# Altium footprint library 6N13x Series.PcbLib: 2 footprints
Each footprint in its own frame and in the unit in brackets; x right, y up, seen from the top. Pads: shape width x height; smd on the part's side, far side on the other; paste and mask are expansions set on the pad; w line width, h text height; cw(c..) or ccw(c..) is an arc to the next point about the centre after c.
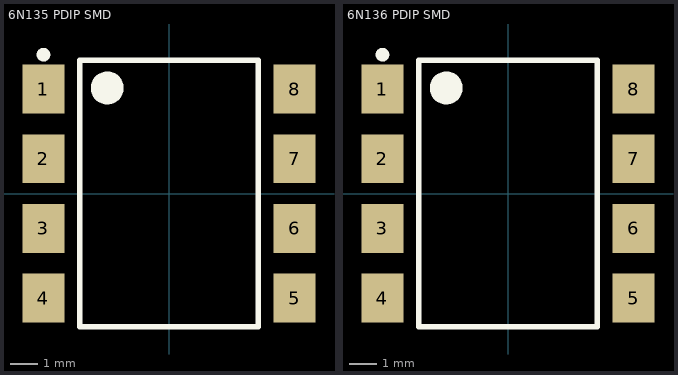
[diagram p0: the footprints below, top view; thin cyan lines are the x and y axes]

## 6N135 PDIP SMD [mm] "Optoisolator Transistor with Base Output 5000Vrms 1 Channel 8-SMD"
pads (8):
  rect 1.52x1.78 smd: 1(-4.575,3.81) 2(-4.575,1.27) 3(-4.575,-1.27) 4(-4.575,-3.81) 5(4.575,-3.81) 6(4.575,-1.27) 7(4.575,1.27) 8(4.575,3.81)
Top Overlay:
  circle w0.25: c-4.575,5.06 r0.125
  circle w0.6: c-2.25,3.85 r0.3
  lines w0.2: -3.25,-4.85 -3.25,4.85 3.25,4.85 3.25,-4.85 -3.25,-4.85
Mechanical 13:
  lines w0.1: -3.25,-4.85 -3.25,4.85 3.25,4.85 3.25,-4.85 -3.25,-4.85
3D body "SMD PDIP 8.STEP": height 4.2, standoff 0, extent -4.825,-4.825 4.825,4.825

## 6N136 PDIP SMD [mm] "Optoisolator Transistor with Base Output 5000Vrms 1 Channel 8-SMD"
height 3.85
pads (8):
  rect 1.52x1.78 smd: 1(-4.575,3.81) 2(-4.575,1.27) 3(-4.575,-1.27) 4(-4.575,-3.81) 5(4.575,-3.81) 6(4.575,-1.27) 7(4.575,1.27) 8(4.575,3.81)
Top Overlay:
  circle w0.6: c-2.25,3.85 r0.3
  circle w0.25: c-4.575,5.06 r0.125
  lines w0.2: -3.25,-4.85 3.25,-4.85 3.25,4.85 -3.25,4.85 -3.25,-4.85
Mechanical 13:
  lines w0.1: -3.25,-4.85 3.25,-4.85 3.25,4.85 -3.25,4.85 -3.25,-4.85
3D body "SMD PDIP 8.STEP": height 4.2, standoff 0, extent -4.825,-4.825 4.825,4.825